# Altium schematic symbol library RcMPPTLib.SchLib: 3 symbols
Pins are listed as number, name and electrical type; pins without a type are passive.

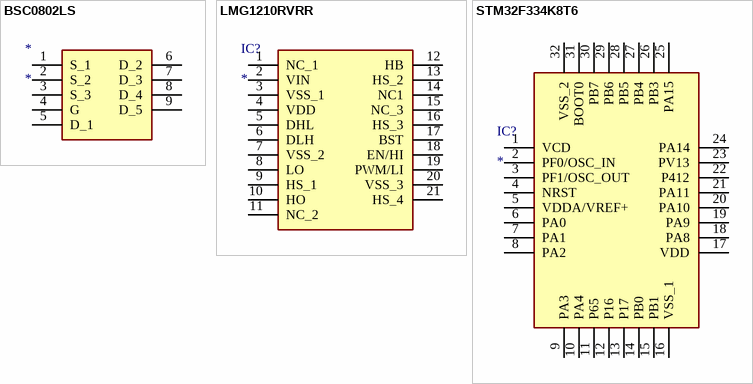
[diagram p0: symbols BSC0802LS to STM32F334K8T6]

## BSC0802LS
designator *
footprint TDSON-8
pins: 1 S_1, 2 S_2, 3 S_3, 4 G, 5 D_1, 6 D_2, 7 D_3, 8 D_4, 9 D_5

## LMG1210RVRR
designator IC?
Integrated Circuit; Manufacturer_Name: Texas Instruments; Manufacturer_Part_Number: LMG1210RVRR; Description: Gate Drivers; Datasheet Link: http://www.ti.com/lit/ds/symlink/lmg1210.pdf; Height: 0.8mm; Arrow Part Number: LMG1210RVRR; Arrow Price/Stock: https://www.arrow.com/en/products/lmg1210rvrr/texas-instruments; Mouser Part Number: 595-LMG1210RVRR; Mouser Price/Stock: https://www.mouser.co.uk/ProductDetail/Texas-Instruments/LMG1210RVRR?qs=r5DSvlrkXmKqI241KOY62g%3D%3D
footprint LMG1210RVRR
pins: 1 NC_1, 2 VIN, 3 VSS_1, 4 VDD, 5 DHL, 6 DLH, 7 VSS_2, 8 LO, 9 HS_1, 10 HO, 11 NC_2, 12 HB, 13 HS_2, 14 NC1, 15 NC_3, 16 HS_3, 17 BST, 18 EN/HI, 19 PWM/LI, 20 VSS_3, 21 HS_4

## STM32F334K8T6
designator IC?
Integrated Circuit; Manufacturer_Name: STMicroelectronics; Manufacturer_Part_Number: STM32F334K8T6; Datasheet Link: http://www.st.com/content/ccc/resource/technical/document/datasheet/d1/cd/3d/18/a2/2c/4e/d0/DM00097745.pdf/files/DM00097745.pdf/jcr:content/translations/en.DM00097745.pdf; Height: 1.6mm; Arrow Part Number: STM32F334K8T6; Arrow Price/Stock: https://www.arrow.com/en/products/stm32f334k8t6/stmicroelectronics; Mouser Part Number: 511-STM32F334K8T6; Mouser Price/Stock: https://www.mouser.co.uk/ProductDetail/STMicroelectronics/STM32F334K8T6?qs=9MuLHSklicqdmZhsdIQM6A%3D%3D
footprint QFP80P900X900X160-32N
pins: 1 VCD, 2 PF0/OSC_IN, 3 PF1/OSC_OUT, 4 NRST, 5 VDDA/VREF+, 6 PA0, 7 PA1, 8 PA2, 9 PA3, 10 PA4, 11 P65, 12 P16, 13 P17, 14 PB0, 15 PB1, 16 VSS_1, 17 VDD, 18 PA8, 19 PA9, 20 PA10, 21 PA11, 22 P412, 23 PV13, 24 PA14, 25 PA15, 26 PB3, 27 PB4, 28 PB5, 29 PB6, 30 PB7, 31 BOOT0, 32 VSS_2